# Altium footprint library MC_Hinged_DIN41612F.PcbLib: 1 footprints
Each footprint in its own frame and in the unit in brackets; x right, y up, seen from the top. Pads: shape width x height; smd on the part's side, far side on the other; paste and mask are expansions set on the pad; w line width, h text height; cw(c..) or ccw(c..) is an arc to the next point about the centre after c.
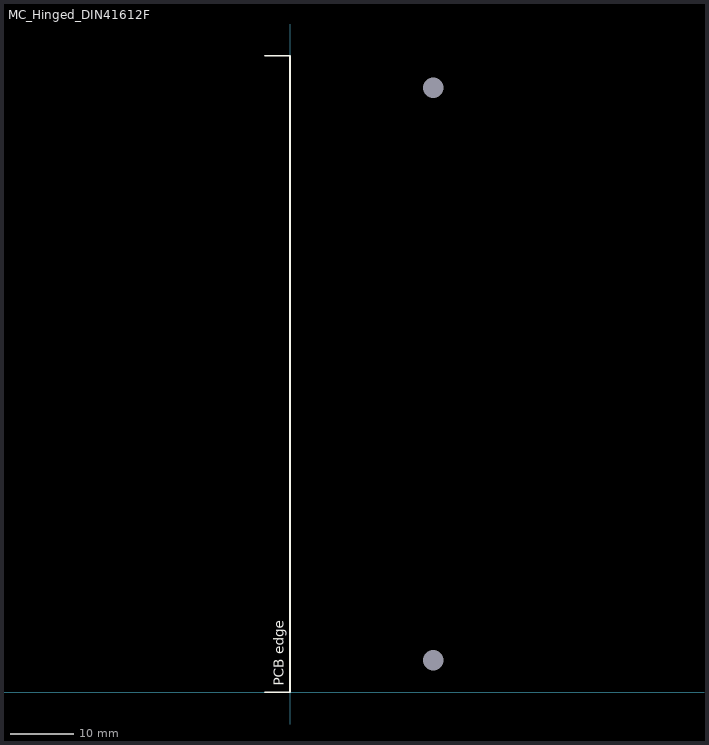
[diagram p0: the footprint, top view; thin cyan lines are the x and y axes]

## MC_Hinged_DIN41612F [mm] "Hinged DIN41612F for test fixture"
pads (2):
  rect 0x0 hole 3.2 unplated: 0(22.5,5) 1(22.5,95)
Top Overlay:
  lines w0.254: -4,0 0,0 0,100 -4,100
  text "PCB edge" at -1,1 h1.52
3D body: height 10.7, standoff -4.1, extent 2.4,3 17,97.9